# EAGLE library part 62002021121 (library Wurth_Elektronik2)
WR-PHD 2.00mm Dual Pin Header, 20 Pins=>Code : WR-PHD_Dual_Pin_Header_62002021121 <http://katalog.we-online.de/media/images/eican/WR-PHD_Dual_Pin_Header_6200xx21121.jpg> Details see: http://katalog.we-online.de/en/em/620_0xx_211_21 Created 2014-06-03, Karrer Zheng 2014 (C) Würth Elektronik
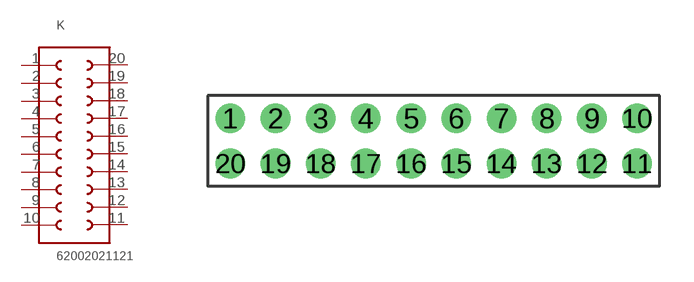
[diagram p237: symbol with the pads of 62002021121; footprint 62002021121]

Designator prefix K

## 62002021121  [62002021121]
1  1  pas
2  2  pas
3  3  pas
4  4  pas
5  5  pas
6  6  pas
7  7  pas
8  8  pas
9  9  pas
10  10  pas
11  11  pas
12  12  pas
13  13  pas
14  14  pas
15  15  pas
16  16  pas
17  17  pas
18  18  pas
19  19  pas
20  20  pas

## Footprint 62002021121 (pad centres in mm)
WR-PHD 2.00mm Dual Pin Header, 20 Pins
drill 0.8: 1 -9,1; 2 -7,1; 3 -5,1; 4 -3,1; 5 -1,1; 6 1,1; 7 3,1; 8 5,1; 9 7,1; 10 9,1; 11 9,-1; 12 7,-1; 13 5,-1; 14 3,-1; 15 1,-1; 16 -1,-1; 17 -3,-1; 18 -5,-1; 19 -7,-1; 20 -9,-1